# EAGLE library part MODULE_GENERIC_DEBUG (library signpost)
The debug version of the signpost module header
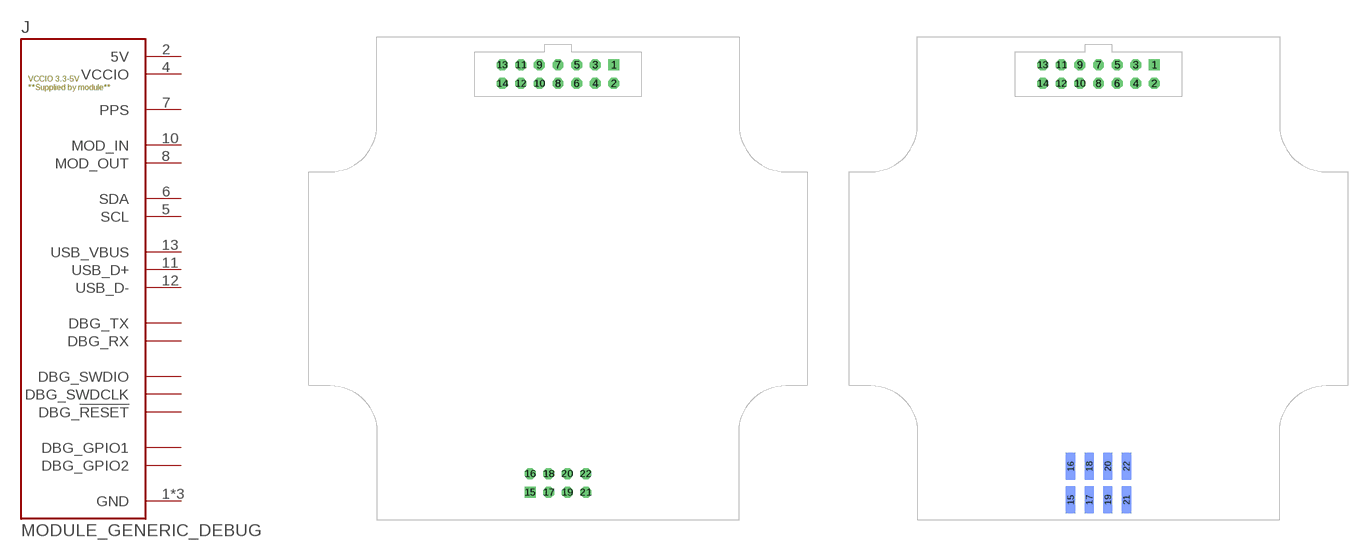
[diagram p25: symbol with the pads of MODULE_GENERIC_DEBUG; footprints MODULE_GENERIC_DEBUG, MODULE_GENERIC_DEBUG_SMT]

Designator prefix J

## MODULE_GENERIC_DEBUG (DIGIKEY: S9170-ND; DIGIKEY2: S2221EC-04-ND; MANUFACTURER: Sullins Connector; MANUFACTURER2: Sullins Connector; MPN: SBH11-PBPC-D07-ST-BK; MPN2: PRPC004DFBN-RC)  [MODULE_GENERIC_DEBUG]
1  GND
2  5V
4  VCCIO
5  SCL
6  SDA
7  PPS
8  MOD_OUT
10  MOD_IN
11  USB_D+
12  USB_D-
13  USB_VBUS
14  GND
15  GND
16  DBG_GPIO1
17  DBG_TX
18  DBG_RX
19  DBG_GPIO2
20  DBG_!RESET
21  DBG_SWDCLK
22  DBG_SWDIO

## MODULE_GENERIC_DEBUGSMT (DIGIKEY1: S9170-ND; DIGIKEY2: WM17450-ND; MANUFACTURER1: Sullins; MANUFACTURER2: Molex; MPN1: SBH11-PBPC-D07-ST-BK; MPN2: 0015912080)  [MODULE_GENERIC_DEBUG_SMT]
Pads as for MODULE_GENERIC_DEBUG

## Footprint MODULE_GENERIC_DEBUG (pad centres in mm)
drill 0.991 square: 1 7.62,29.21; 15 -3.81,-29.21
drill 0.991 octagon: 2 7.62,26.67; 3 5.08,29.21; 4 5.08,26.67; 5 2.54,29.21; 6 2.54,26.67; 7 0,29.21; 8 0,26.67; 9 -2.54,29.21; 10 -2.54,26.67; 11 -5.08,29.21; 12 -5.08,26.67; 13 -7.62,29.21; 14 -7.62,26.67; 16 -3.81,-26.67; 17 -1.27,-29.21; 18 -1.27,-26.67; 19 1.27,-29.21; 20 1.27,-26.67; 21 3.81,-29.21; 22 3.81,-26.67

## Footprint MODULE_GENERIC_DEBUG_SMT (pad centres in mm)
drill 0.991 square: 1 7.62,29.21
drill 0.991 octagon: 2 7.62,26.67; 3 5.08,29.21; 4 5.08,26.67; 5 2.54,29.21; 6 2.54,26.67; 7 0,29.21; 8 0,26.67; 9 -2.54,29.21; 10 -2.54,26.67; 11 -5.08,29.21; 12 -5.08,26.67; 13 -7.62,29.21; 14 -7.62,26.67
smd 1.27 x 3.683 bottom: 15 -3.81,-30.226; 16 -3.81,-25.654; 17 -1.27,-30.226; 18 -1.27,-25.654; 19 1.27,-30.226; 20 1.27,-25.654; 21 3.81,-30.226; 22 3.81,-25.654